# EAGLE library part TPS25741A (library borkedlabs-powerics)
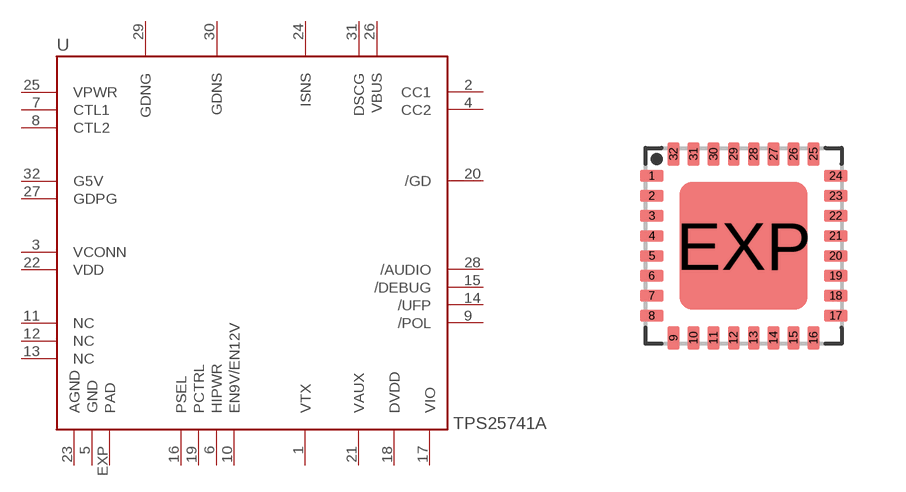
[diagram p7: symbol with the pads of TQFN32-5X5; footprint TQFN32-5X5]

Designator prefix U

## TPS25741A  [TQFN32-5X5]
1  VTX
2  CC1
3  VCONN
4  CC2
5  GND
6  HIPWR
7  CTL1
8  CTL2
9  /POL
10  EN9V/EN12V
11  NC
12  NC
13  NC
14  /UFP
15  /DEBUG
16  PSEL
17  VIO
18  DVDD
19  PCTRL
20  /GD
21  VAUX
22  VDD
23  AGND
24  ISNS
25  VPWR
26  VBUS
27  GDPG
28  /AUDIO
29  GDNG
30  GDNS
31  DSCG
32  G5V
EXP  PAD

## Footprint TQFN32-5X5 (pad centres in mm)
TQFN 32 5 x 5 mm https://pdfserv.maximintegrated.com/land_patterns/90-0001.PDF
smd 0.6 x 0.3: 1 -2.3,1.75; 2 -2.3,1.25; 3 -2.3,0.75; 4 -2.3,0.25; 5 -2.3,-0.25; 6 -2.3,-0.75; 7 -2.3,-1.25; 8 -2.3,-1.75; 17 2.3,-1.75; 18 2.3,-1.25; 19 2.3,-0.75; 20 2.3,-0.25; 21 2.3,0.25; 22 2.3,0.75; 23 2.3,1.25; 24 2.3,1.75
smd 0.3 x 0.6: 9 -1.75,-2.3; 10 -1.25,-2.3; 11 -0.75,-2.3; 12 -0.25,-2.3; 13 0.25,-2.3; 14 0.75,-2.3; 15 1.25,-2.3; 16 1.75,-2.3; 25 1.75,2.3; 26 1.25,2.3; 27 0.75,2.3; 28 0.25,2.3; 29 -0.25,2.3; 30 -0.75,2.3; 31 -1.25,2.3; 32 -1.75,2.3
smd 3.2 x 3.2: EXP 0,0